# Altium footprint library Sensors.PcbLib: 1 footprints
Each footprint in its own frame and in the unit in brackets; x right, y up, seen from the top. Pads: shape width x height; smd on the part's side, far side on the other; paste and mask are expansions set on the pad; w line width, h text height; cw(c..) or ccw(c..) is an arc to the next point about the centre after c.
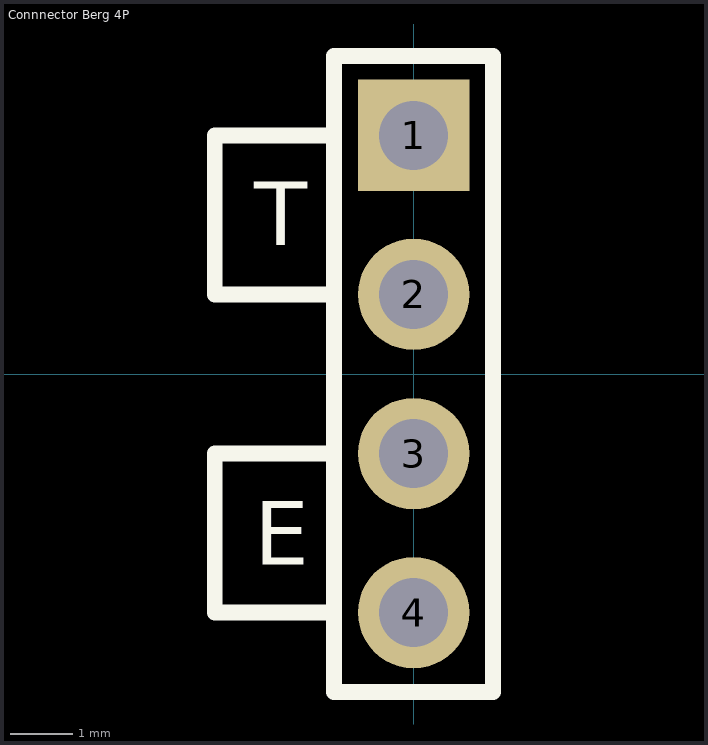
[diagram p0: the footprint, top view; thin cyan lines are the x and y axes]

## Connnector Berg 4P [mil]
pads (4):
  rect 70x70 hole 43.31: 1(0,150)
  round 70 hole 43.31: 2(0,50) 3(0,-50) 4(0,-150)
Top Overlay:
  lines w10: -50,-150 -125,-150 -125,-50 -50,-50 ; -50,50 -125,50 -125,150 -50,150 ; -50,-200 -50,200 50,200 50,-200 -50,-200
  text "T" at -100.24,80.87 h40
  text "E" at -100.24,-119.92 h40
3D body "61300411121_Download_STP_61300411121_rev1BergMale.stp": height 337.72, standoff -116.61, extent -50,-199.99 50,200.01